# EAGLE library part ESDA6V1-5W6 (library dooba)
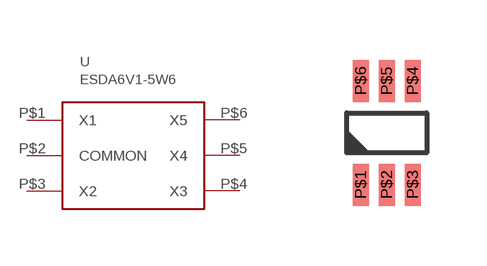
[diagram p48: symbol with the pads of SOT-323-6L; footprint SOT-323-6L]

Designator prefix U

## ESDA6V1-5W6  [SOT-323-6L]
P$1  X1
P$2  COMMON
P$3  X2
P$4  X3
P$5  X4
P$6  X5

## Footprint SOT-323-6L (pad centres in mm)
smd 0.4 x 1.05: P$1 -0.65,-1.3; P$2 0,-1.3; P$3 0.65,-1.3; P$4 0.65,1.3; P$5 0,1.3; P$6 -0.65,1.3